# EAGLE library part ULN2004A (library ULN2004A)
DRIVER ARRAY Check availability <https://pricing.snapeda.com/parts/ULN2004A/STMicroelectronics/view-part?ref=eda>
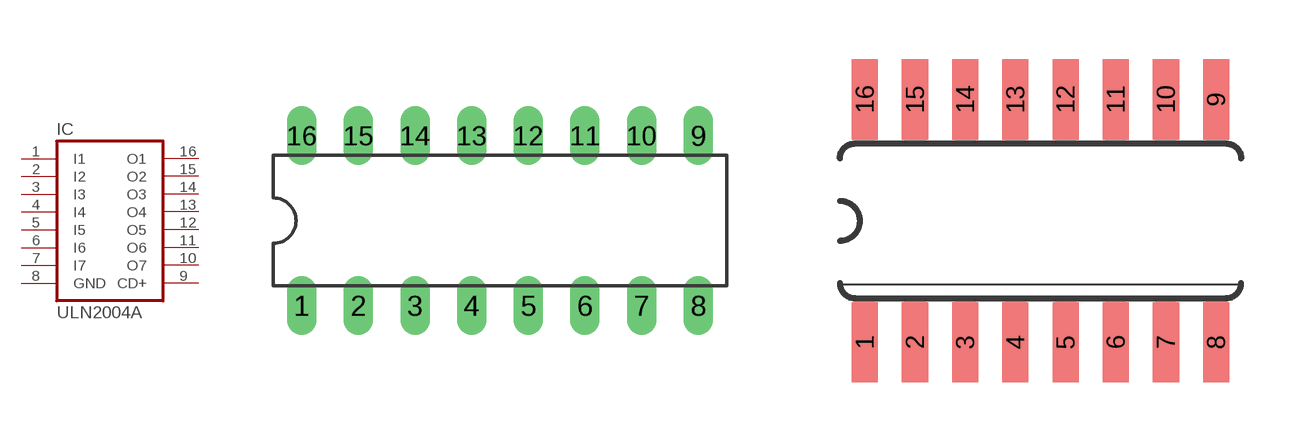
[diagram p0: symbol with the pads of DIL16; footprints DIL16, SO16]

Designator prefix IC

## ULN2004AN (Availability: In Stock; Check_prices: https://www.snapeda.com/parts/ULN2004A/STMicroelectronics/view-part/?ref=eda; Description: Bipolar (BJT) Transistor Array 7 NPN Darlington 50V 500mA - - Through Hole 16-DIP; MF: STMicroelectronics; MP: ULN2004A; Package: PDIP-16 ON Semiconductor; Price: None; Purchase-URL: https://www.snapeda.com/api/url_track_click_mouser/?unipart_id=45236&manufacturer=STMicroelectronics&part_name=ULN2004A&search_term=uln200; SnapEDA_Link: https://www.snapeda.com/parts/ULN2004A/STMicroelectronics/view-part/?ref=snap)  [DIL16]
1  I1  in
2  I2  in
3  I3  in
4  I4  in
5  I5  in
6  I6  in
7  I7  in
8  GND  pwr
9  CD+  pas
10  O7  oc
11  O6  oc
12  O5  oc
13  O4  oc
14  O3  oc
15  O2  oc
16  O1  oc

## ULN2004AD (Availability: In Stock; Check_prices: https://www.snapeda.com/parts/ULN2004A/STMicroelectronics/view-part/?ref=eda; Description: Bipolar (BJT) Transistor Array 7 NPN Darlington 50V 500mA - - Through Hole 16-DIP; MF: STMicroelectronics; MP: ULN2004A; Package: PDIP-16 ON Semiconductor; Price: None; Purchase-URL: https://www.snapeda.com/api/url_track_click_mouser/?unipart_id=45236&manufacturer=STMicroelectronics&part_name=ULN2004A&search_term=uln200; SnapEDA_Link: https://www.snapeda.com/parts/ULN2004A/STMicroelectronics/view-part/?ref=snap)  [SO16]
Pads as for DIL16

## Footprint DIL16 (pad centres in mm)
Dual In Line Package
drill 0.813 long: 1 -8.89,-3.81; 2 -6.35,-3.81; 3 -3.81,-3.81; 4 -1.27,-3.81; 5 1.27,-3.81; 6 3.81,-3.81; 7 6.35,-3.81; 8 8.89,-3.81; 9 8.89,3.81; 10 6.35,3.81; 11 3.81,3.81; 12 1.27,3.81; 13 -1.27,3.81; 14 -3.81,3.81; 15 -6.35,3.81; 16 -8.89,3.81

## Footprint SO16 (pad centres in mm)
Small Outline Package
smd 0.66 x 2.032: 1 -4.445,-3.073; 2 -3.175,-3.073; 3 -1.905,-3.073; 4 -0.635,-3.073; 5 0.635,-3.073; 6 1.905,-3.073; 7 3.175,-3.073; 8 4.445,-3.073; 9 4.445,3.073; 10 3.175,3.073; 11 1.905,3.073; 12 0.635,3.073; 13 -0.635,3.073; 14 -1.905,3.073; 15 -3.175,3.073; 16 -4.445,3.073